# Altium schematic symbol library cpc1150ntr.SchLib: 1 symbol
Pins are listed as number, name and electrical type; pins without a type are passive.

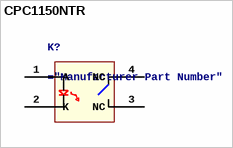
[diagram p0: symbol CPC1150NTR]

## CPC1150NTR
designator K?
CPC1150N Series SPST 120 mA 350 V Single Channel Solid State Relay SMT - SOIC-4
pins: 1 A, 2 K, 3 NC, 4 NC